# Altium schematic symbol library Connector.SchLib: 114 symbols
Pins are listed as number, name and electrical type; pins without a type are passive.

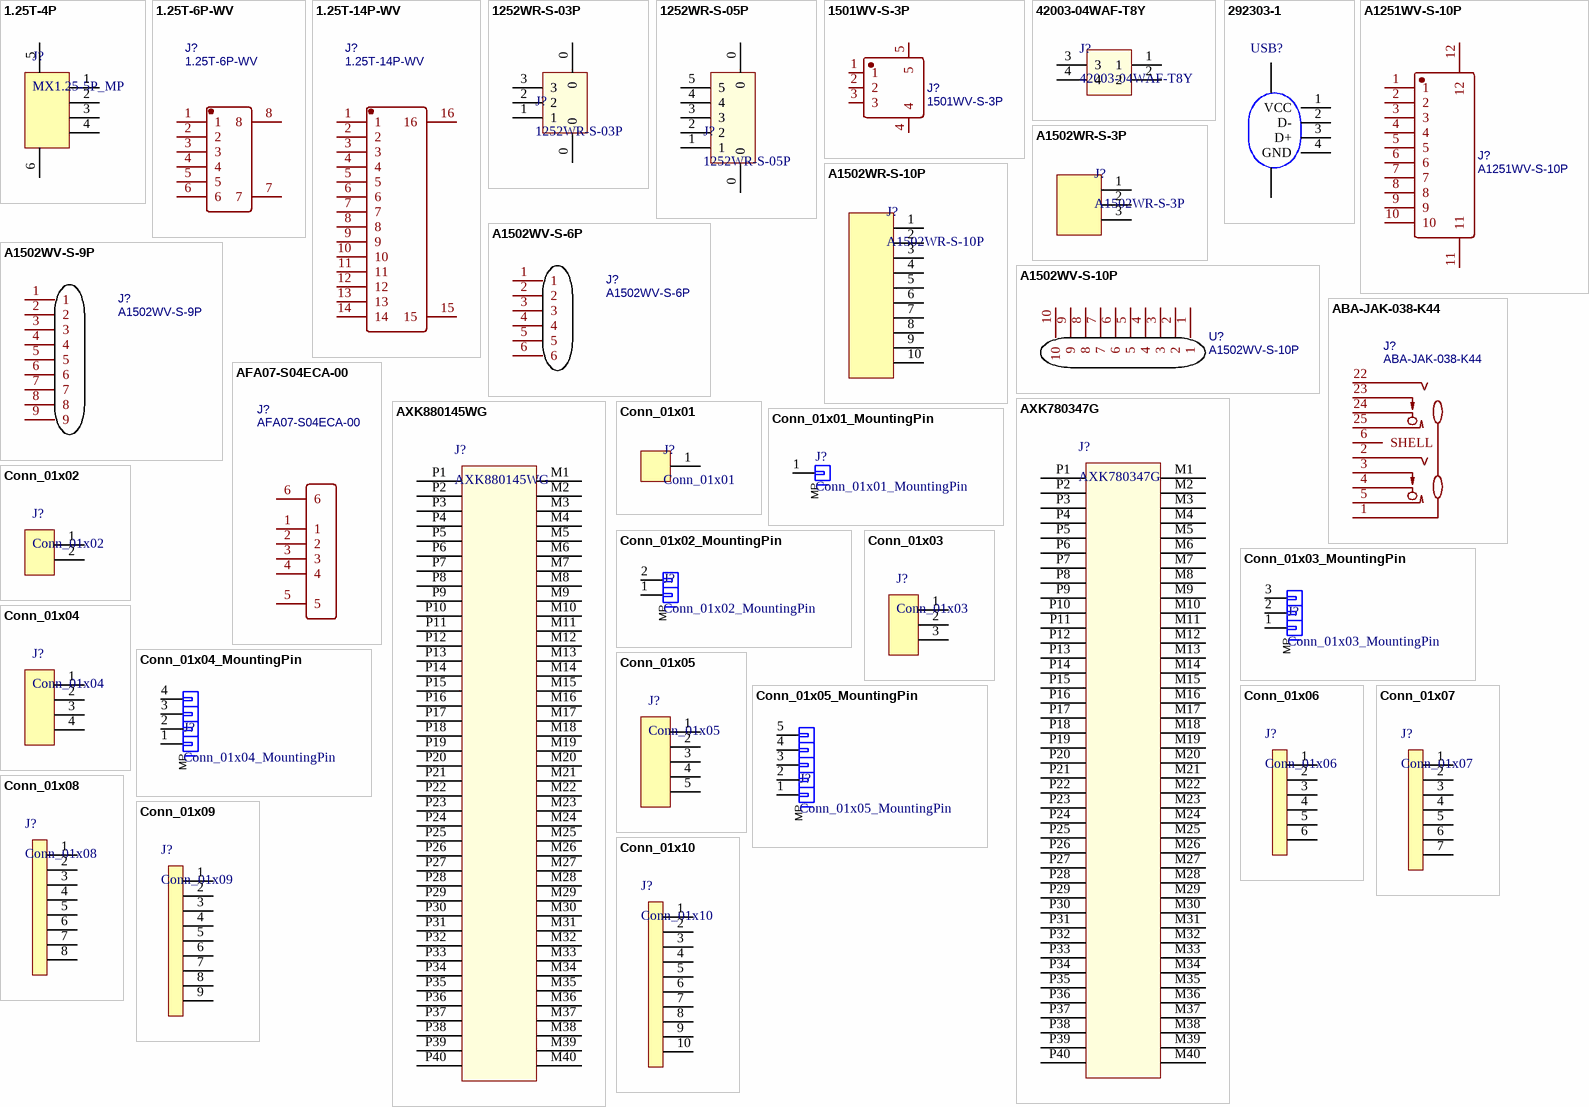
[diagram p0: symbols 1.25T-4P to Conn_01x10]

## 1.25T-4P
designator J?, comment MX1.25-5P_MP
1.25mm间距，立式表贴线对板接插件
footprint CONN-SMD_4P-P1.25_1.25T-4P
pins: 1, 2, 3, 4, 5, 6

## 1.25T-6P-WV
designator J?
1.25mm间距，立式表贴线对板接插件; BOM_Manufacturer: HRO; Contributor: LCSC; BOM_Supplier: LCSC; BOM_Manufacturer Part: 1.25T-6P-WV; BOM_Supplier Part: C145932; BOM_JLCPCB Part Class: Extended Part; spicePre: C; spiceSymbolName: 1.25T-6P-WV
footprint 1.25T-6P-WV
pins: 1, 2, 3, 4, 5, 6, 7, 8

## 1.25T-14P-WV
designator J?
1.25mm间距，14P，立式表贴线对板接插件; BOM_Manufacturer: HRO; BOM_Manufacturer Part: 1.25T-6P-WV; Contributor: LCSC; BOM_Supplier: LCSC; BOM_Supplier Part: C145932; BOM_JLCPCB Part Class: Extended Part; spicePre: C; spiceSymbolName: 1.25T-6P-WV
footprint 1.25T-14P-WV
pins: 1, 2, 3, 4, 5, 6, 7, 8, 9, 10, 11, 12, 13, 14, 15, 16

## 1252WR-S-03P
designator J?
1.25mm W2B 3P
footprint 1252WR-S-03P
pins: 0, 0, 1, 2, 3

## 1252WR-S-05P
designator J?
1.25mm W2B 5P
footprint 1252WR-S-05P
pins: 0, 0, 1, 2, 3, 4, 5

## 1501WV-S-3P
designator J?
立贴1.5mm带固定-3P; BOM_Manufacturer: Changjiang Connectors; BOM_Manufacturer Part: A1501WV-S-3P; Contributor: LCSC; BOM_Supplier: LCSC; BOM_Supplier Part: C225161; BOM_JLCPCB Part Class: Extended Part; spicePre: C; spiceSymbolName: A1501WV-S-3P
footprint CONN-SMD_A1501WV-S-3P
pins: 1, 2, 3, 4, 5

## 42003-04WAF-T8Y
designator J?
footprint CONN-TH_4P-P4.20-S5.50_L12.8-W9.6
pins: 1, 2, 3, 4

## 292303-1
designator USB?  (value not drawn)
Manufacturer: TE Connectivity(美国泰科); Add into BOM: yes; Connector Type: Type-A; Gender: 母座; Number of Contacts: 4; Number of Ports: 1; Symbol: 292303-1; Device: 292303-1; LCSC Part Name: Type-A 母座; Supplier Part: C86461; Manufacturer Part: 292303-1; Supplier Footprint: 插件; JLCPCB Part Class: Extended Part; Datasheet: https://atta.szlcsc.com/upload/public/pdf/source/20171106/C86461_15099694096011094005.pdf; Supplier: LCSC; Convert to PCB: yes; Standard: USB 2.0
footprint USB-A-TH_USB-302-T
3D model USB-A-TH_USB-A-F-90
pins: 1 VCC, 2 D-, 3 D+, 4 GND, 5, 6

## A1251WV-S-10P
designator J?
立贴1.25mm 10P; BOM_Manufacturer: Changjiang Connectors; Contributor: LCSC; BOM_Supplier: LCSC; BOM_Supplier Part: C273002; BOM_Manufacturer Part: A1251WV-S-10P; BOM_JLCPCB Part Class: Extended Part; spicePre: U; spiceSymbolName: A1251WV-S-10P
footprint CONN-SMD_10P-P1.25_A1251WV-S-10P
pins: 1, 2, 3, 4, 5, 6, 7, 8, 9, 10, 11, 12

## A1502WR-S-3P
designator J?
侧插MX1.5mm 3p
footprint A1502WR-S-3P
pins: 1, 2, 3

## A1502WR-S-10P
designator J?
侧插MX1.5mm 10p
footprint A1502WR-S-10P
pins: 1, 2, 3, 4, 5, 6, 7, 8, 9, 10

## A1502WV-S-6P
designator J?
1.5mm 6P 立贴; BOM_Manufacturer: Changjiang Connectors; BOM_Manufacturer Part: A1502WV-S-10P; Contributor: LCSC; BOM_Supplier: LCSC; BOM_Supplier Part: C273031; BOM_JLCPCB Part Class: Extended Part; spicePre: U; spiceSymbolName: A1502WV-S-10P
footprint A1502WV-S-6P
pins: 1, 2, 3, 4, 5, 6

## A1502WV-S-9P
designator J?
1.5mm 9P 立贴; BOM_Manufacturer: Changjiang Connectors; BOM_Manufacturer Part: A1502WV-S-10P; Contributor: LCSC; BOM_Supplier: LCSC; BOM_Supplier Part: C273031; BOM_JLCPCB Part Class: Extended Part; spicePre: U; spiceSymbolName: A1502WV-S-10P
footprint A1502WV-S-9P (Footprint not found)
pins: 1, 2, 3, 4, 5, 6, 7, 8, 9

## A1502WV-S-10P
designator U?
1.5mm 10P 立贴; BOM_Manufacturer: Changjiang Connectors; Contributor: LCSC; BOM_Supplier: LCSC; BOM_Supplier Part: C273031; BOM_Manufacturer Part: A1502WV-S-10P; BOM_JLCPCB Part Class: Extended Part; spicePre: U; spiceSymbolName: A1502WV-S-10P
footprint A1502WV-S-10P
pins: 1, 2, 3, 4, 5, 6, 7, 8, 9, 10

## ABA-JAK-038-K44
designator J?
3.5mm 音频插座; BOM_Manufacturer: LOTES; Contributor: LCSC; BOM_Supplier: LCSC; BOM_Supplier Part: C962119; BOM_Manufacturer Part: ABA-JAK-038-K44; BOM_JLCPCB Part Class: Extended Part; spicePre: B; spiceSymbolName: ABA-JAK-038-K44
footprint AUDIO-TH_ABA-JAK-038-K44
pins: 1, 2, 3, 4, 5, 6 SHELL, 22, 23, 24, 25

## AFA07-S04ECA-00
designator J?
BOM_Manufacturer: JUSHUO; Contributor: LCSC; BOM_Supplier: LCSC; BOM_Supplier Part: C262731; BOM_Manufacturer Part: AFA07-S04ECA-00; BOM_JLCPCB Part Class: Extended Part; spicePre: F; spiceSymbolName: AFA07-S04ECA-00
footprint FPC-SMD_4P-P1.00_AFA07-S04ECA-00
pins: 1, 2, 3, 4, 5, 6

## AXK780347G
designator J?
Panasonic 0.4mm pitch b2b connector, socket without soldering terminal
footprint AXK780347G
pins: M1, M2, M3, M4, M5, M6, M7, M8, M9, M10, M11, M12, M13, M14, M15, M16, M17, M18, M19, M20, M21, M22, M23, M24, M25, M26, M27, M28, M29, M30, M31, M32, M33, M34, M35, M36, M37, M38, M39, M40, P1, P2, P3, P4, P5, P6, P7, P8, P9, P10, P11, P12, P13, P14, P15, P16, P17, P18, P19, P20, P21, P22, P23, P24, P25, P26, P27, P28, P29, P30, P31, P32, P33, P34, P35, P36, P37, P38, P39, P40

## AXK880145WG
designator J?
Panasonic 0.4mm pitch b2b connector, header without soldering terminal
footprint AXK880145WG
pins: M1, M2, M3, M4, M5, M6, M7, M8, M9, M10, M11, M12, M13, M14, M15, M16, M17, M18, M19, M20, M21, M22, M23, M24, M25, M26, M27, M28, M29, M30, M31, M32, M33, M34, M35, M36, M37, M38, M39, M40, P1, P2, P3, P4, P5, P6, P7, P8, P9, P10, P11, P12, P13, P14, P15, P16, P17, P18, P19, P20, P21, P22, P23, P24, P25, P26, P27, P28, P29, P30, P31, P32, P33, P34, P35, P36, P37, P38, P39, P40

## Conn_01x01
designator J?
footprint PinHeader_1x01_P2.54mm_Vertical
footprint PinStampDual_1x01_P1.27mm
footprint PinStamp_1x01_P1.27mm
pins: 1

## Conn_01x01_MountingPin
designator J?
pins: 1
text: MP

## Conn_01x02
designator J?
footprint PinHeader_1x02_P2.54mm_Vertical
pins: 1, 2

## Conn_01x02_MountingPin
designator J?
pins: 1, 2
text: MP

## Conn_01x03
designator J?
footprint PinHeader_1x03_P2.54mm_Vertical
pins: 1, 2, 3

## Conn_01x03_MountingPin
designator J?
pins: 1, 2, 3
text: MP

## Conn_01x04
designator J?
footprint PinHeader_1x04_P2.54mm_Vertical
pins: 1, 2, 3, 4

## Conn_01x04_MountingPin
designator J?
pins: 1, 2, 3, 4
text: MP

## Conn_01x05
designator J?
footprint PinHeader_1x05_P2.54mm_Vertical
footprint PinSocket_1x05_P2.54mm_Vertical
pins: 1, 2, 3, 4, 5

## Conn_01x05_MountingPin
designator J?
pins: 1, 2, 3, 4, 5
text: MP

## Conn_01x06
designator J?
footprint PinHeader_1x06_P2.54mm_Vertical
pins: 1, 2, 3, 4, 5, 6

## Conn_01x07
designator J?
footprint PinHeader_1x07_P2.54mm_Vertical
footprint PinSocket_1x07_P2.54mm_Vertical
pins: 1, 2, 3, 4, 5, 6, 7

## Conn_01x08
designator J?
footprint PinHeader_1x08_P2.54mm_Vertical
pins: 1, 2, 3, 4, 5, 6, 7, 8

## Conn_01x09
designator J?
footprint PinStamp_1x09_P1.27mm
footprint PinStampDual_1x09_P1.27mm
footprint PinHeader_1x09_P2.54mm_Vertical
pins: 1, 2, 3, 4, 5, 6, 7, 8, 9

## Conn_01x10
designator J?
footprint PinHeader_1x10_P2.54mm_Vertical
pins: 1, 2, 3, 4, 5, 6, 7, 8, 9, 10

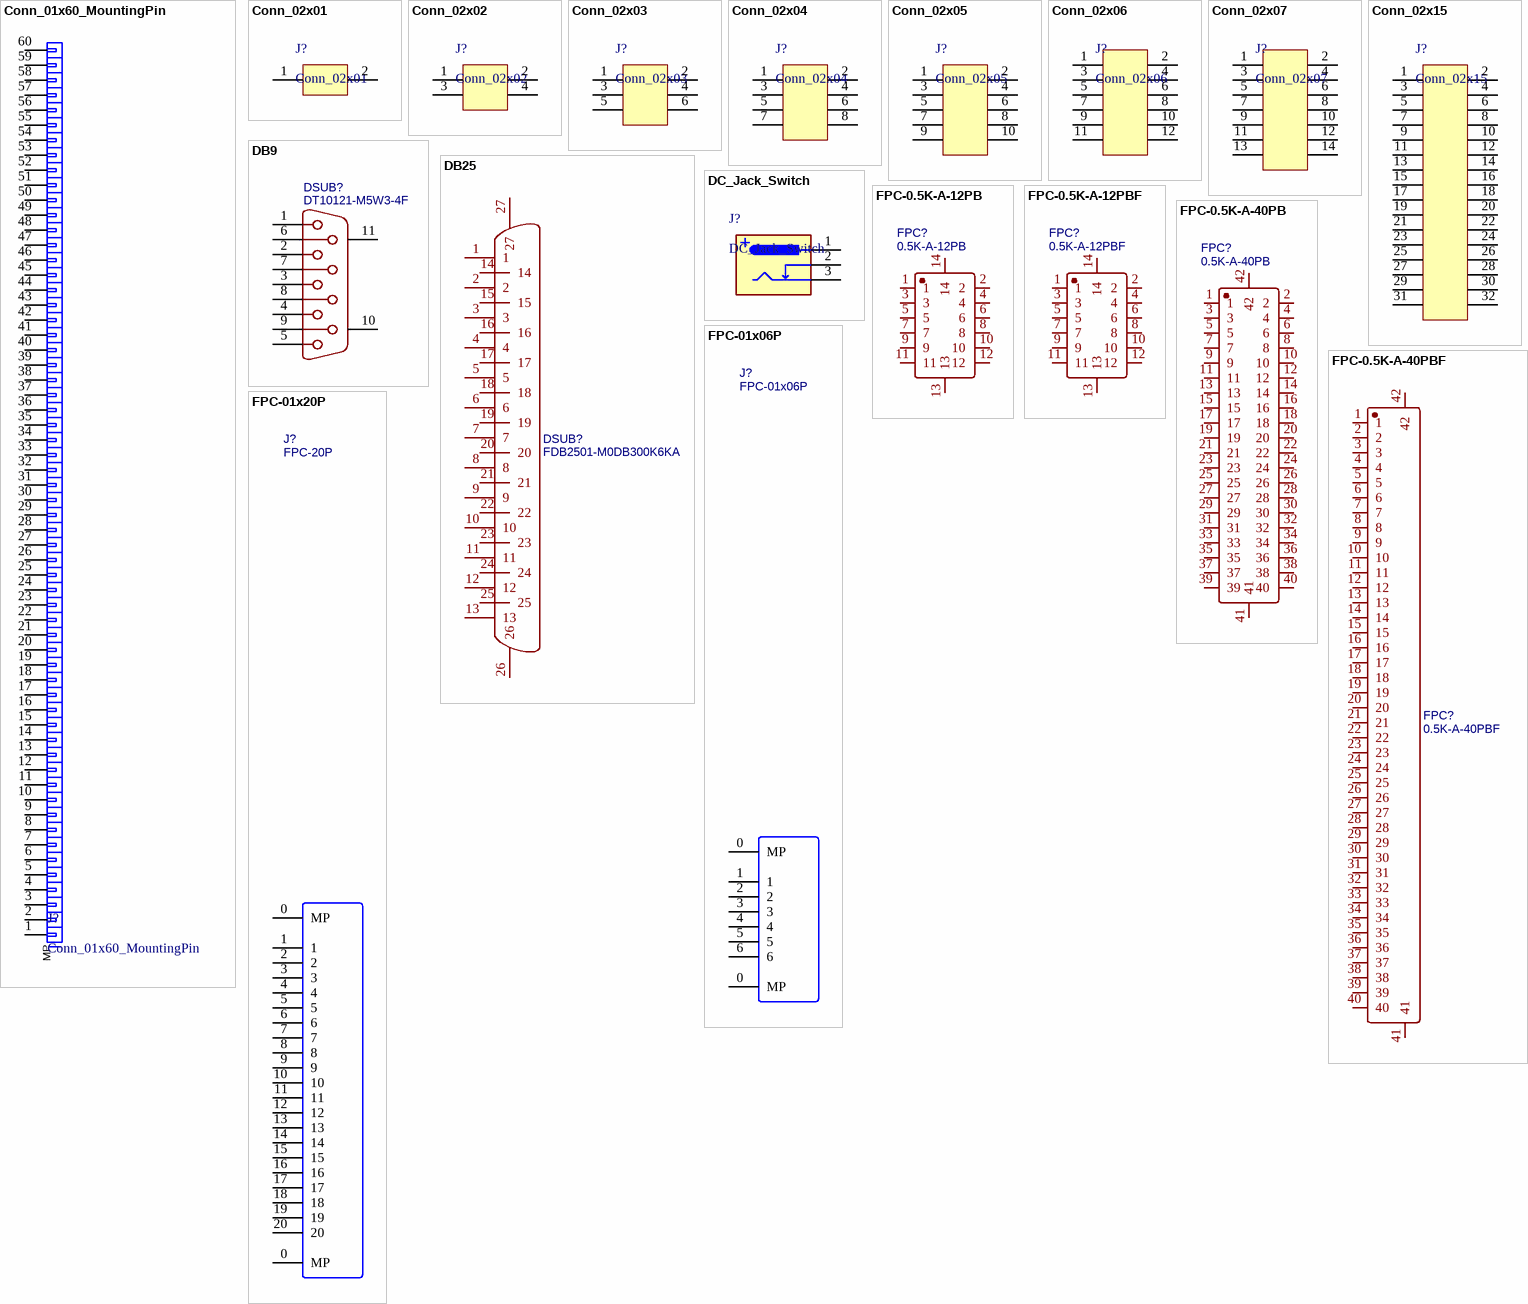
[diagram p1: symbols Conn_01x60_MountingPin to FPC-01x20P]

## Conn_01x60_MountingPin
designator J?
pins: 1, 2, 3, 4, 5, 6, 7, 8, 9, 10, 11, 12, 13, 14, 15, 16, 17, 18, 19, 20, 21, 22, 23, 24, 25, 26, 27, 28, 29, 30, 31, 32, 33, 34, 35, 36, 37, 38, 39, 40, 41, 42, 43, 44, 45, 46, 47, 48, 49, 50, 51, 52, 53, 54, 55, 56, 57, 58, 59, 60
text: MP

## Conn_02x01
designator J?
footprint PinHeader_2x01_P2.54mm_Vertical
pins: 1, 2

## Conn_02x02
designator J?
footprint PinHeader_2x02_P2.54mm_Vertical
pins: 1, 2, 3, 4

## Conn_02x03
designator J?
footprint PinHeader_2x03_P2.54mm_Vertical
pins: 1, 2, 3, 4, 5, 6

## Conn_02x04
designator J?
footprint PinHeader_2x04_P2.54mm_Vertical
pins: 1, 2, 3, 4, 5, 6, 7, 8

## Conn_02x05
designator J?
footprint PinHeader_2x05_P2.54mm_Vertical
pins: 1, 2, 3, 4, 5, 6, 7, 8, 9, 10

## Conn_02x06
designator J?
footprint PinHeader_2x06_P2.54mm_Vertical
pins: 1, 2, 3, 4, 5, 6, 7, 8, 9, 10, 11, 12

## Conn_02x07
designator J?
footprint PinHeader_2x07_P2.54mm_Vertical
pins: 1, 2, 3, 4, 5, 6, 7, 8, 9, 10, 11, 12, 13, 14

## Conn_02x15
designator J?
pins: 1, 2, 3, 4, 5, 6, 7, 8, 9, 10, 11, 12, 13, 14, 15, 16, 17, 18, 19, 20, 21, 22, 23, 24, 25, 26, 27, 28, 29, 30, 31, 32

## DB9
designator DSUB?, comment DT10121-M5W3-4F
BOM_Manufacturer: FOXCONN(富士康); Contributor: LCSC; BOM_Supplier: LCSC; BOM_Supplier Part: C2760978; BOM_Manufacturer Part: DT10121-M5W3-4F; spicePre: D; spiceSymbolName: DT10121-M5W3-4F
footprint DSUB-TH_DT10121-M5W3-4F
pins: 1, 2, 3, 4, 5, 6, 7, 8, 9, 10 MH1, 11 MH2

## DB25
designator DSUB?, comment FDB2501-M0DB300K6KA
BOM_Manufacturer: TXGA(特思嘉); Contributor: LCSC; BOM_Supplier: LCSC; BOM_Supplier Part: C2834344; BOM_Manufacturer Part: FDB2501-M0DB300K6KA; spicePre: D; spiceSymbolName: FDB2501-M0DB300K6KA
footprint DB25-TH_FDB2501-M0DB300K6KA
pins: 1, 2, 3, 4, 5, 6, 7, 8, 9, 10, 11, 12, 13, 14, 15, 16, 17, 18, 19, 20, 21, 22, 23, 24, 25, 26, 27

## DC_Jack_Switch
designator J?
DC Barrel Jack with an internal switch
footprint DC-005-2.1mm
pins: 1, 2, 3

## FPC-0.5K-A-12PB
designator FPC?, comment 0.5K-A-12PB
0.5间距立式SMT抽拉 H=4.5 12P; BOM_Manufacturer: HDGC(华德共创); Contributor: LCSC; BOM_Supplier: LCSC; BOM_Supplier Part: C2914138; BOM_Manufacturer Part: 0.5K-A-12PB; BOM_JLCPCB Part Class: Extended Part; spicePre: F; spiceSymbolName: 0.5K-A-12PB
footprint FPC-SMD_12P-P0.50_HDGC_0.5K-A-12PB
pins: 1, 2, 3, 4, 5, 6, 7, 8, 9, 10, 11, 12, 13, 14

## FPC-0.5K-A-12PBF
designator FPC?, comment 0.5K-A-12PBF
0.5间距立式贴片反脚H=4.5 12P; BOM_Manufacturer: HDGC(华德共创); Contributor: LCSC; BOM_Supplier: LCSC; BOM_Supplier Part: C2914207; BOM_Manufacturer Part: 0.5K-A-12PBF; spicePre: F; spiceSymbolName: 0.5K-A-12PBF
footprint FPC-SMD_12P-P0.50_HDGC_0.5K-A-12PBF
pins: 1, 2, 3, 4, 5, 6, 7, 8, 9, 10, 11, 12, 13, 14

## FPC-0.5K-A-40PB
designator FPC?, comment 0.5K-A-40PB
0.5mm FPC 40P 立贴 0.5K-A-40PB; BOM_Manufacturer: HDGC(华德共创); Contributor: LCSC; BOM_Supplier: LCSC; BOM_Supplier Part: C2914160; BOM_Manufacturer Part: 0.5K-A-40PB; BOM_JLCPCB Part Class: Extended Part; spicePre: F; spiceSymbolName: 0.5K-A-40PB
footprint FPC-SMD_40P-P0.50_HDGC_0.5K-A-40PB
pins: 1, 2, 3, 4, 5, 6, 7, 8, 9, 10, 11, 12, 13, 14, 15, 16, 17, 18, 19, 20, 21, 22, 23, 24, 25, 26, 27, 28, 29, 30, 31, 32, 33, 34, 35, 36, 37, 38, 39, 40, 41, 42

## FPC-0.5K-A-40PBF
designator FPC?, comment 0.5K-A-40PBF
0.5mm FPC 40P 立贴反脚 0.5K-A-40PB; BOM_Manufacturer: HDGC(华德共创); Contributor: LCSC; BOM_Supplier: LCSC; BOM_Supplier Part: C2914225; BOM_Manufacturer Part: 0.5K-A-40PBF; spicePre: F; spiceSymbolName: 0.5K-A-40PBF
footprint FPC-SMD_40P-P0.50_HDGC_0.5K-A-40PBF
pins: 1, 2, 3, 4, 5, 6, 7, 8, 9, 10, 11, 12, 13, 14, 15, 16, 17, 18, 19, 20, 21, 22, 23, 24, 25, 26, 27, 28, 29, 30, 31, 32, 33, 34, 35, 36, 37, 38, 39, 40, 41, 42

## FPC-01x06P
designator J?
BOM_Manufacturer: JUSHUO; BOM_Manufacturer Part: AFC07-S60ECC-00; Contributor: LCSC; BOM_Supplier: LCSC; BOM_Supplier Part: C262259; spicePre: F; spiceSymbolName: AFC07-S60ECC-00
footprint FPC-SMD_P06_0.5MM
pins: 0 MP, 0 MP, 1, 2, 3, 4, 5, 6

## FPC-01x20P
designator J?, comment FPC-20P
BOM_Manufacturer: JUSHUO; BOM_Manufacturer Part: AFC07-S60ECC-00; Contributor: LCSC; BOM_Supplier: LCSC; BOM_Supplier Part: C262259; spicePre: F; spiceSymbolName: AFC07-S60ECC-00
footprint FPC-SMD_P20_0.5MM
pins: 0 MP, 0 MP, 1, 2, 3, 4, 5, 6, 7, 8, 9, 10, 11, 12, 13, 14, 15, 16, 17, 18, 19, 20

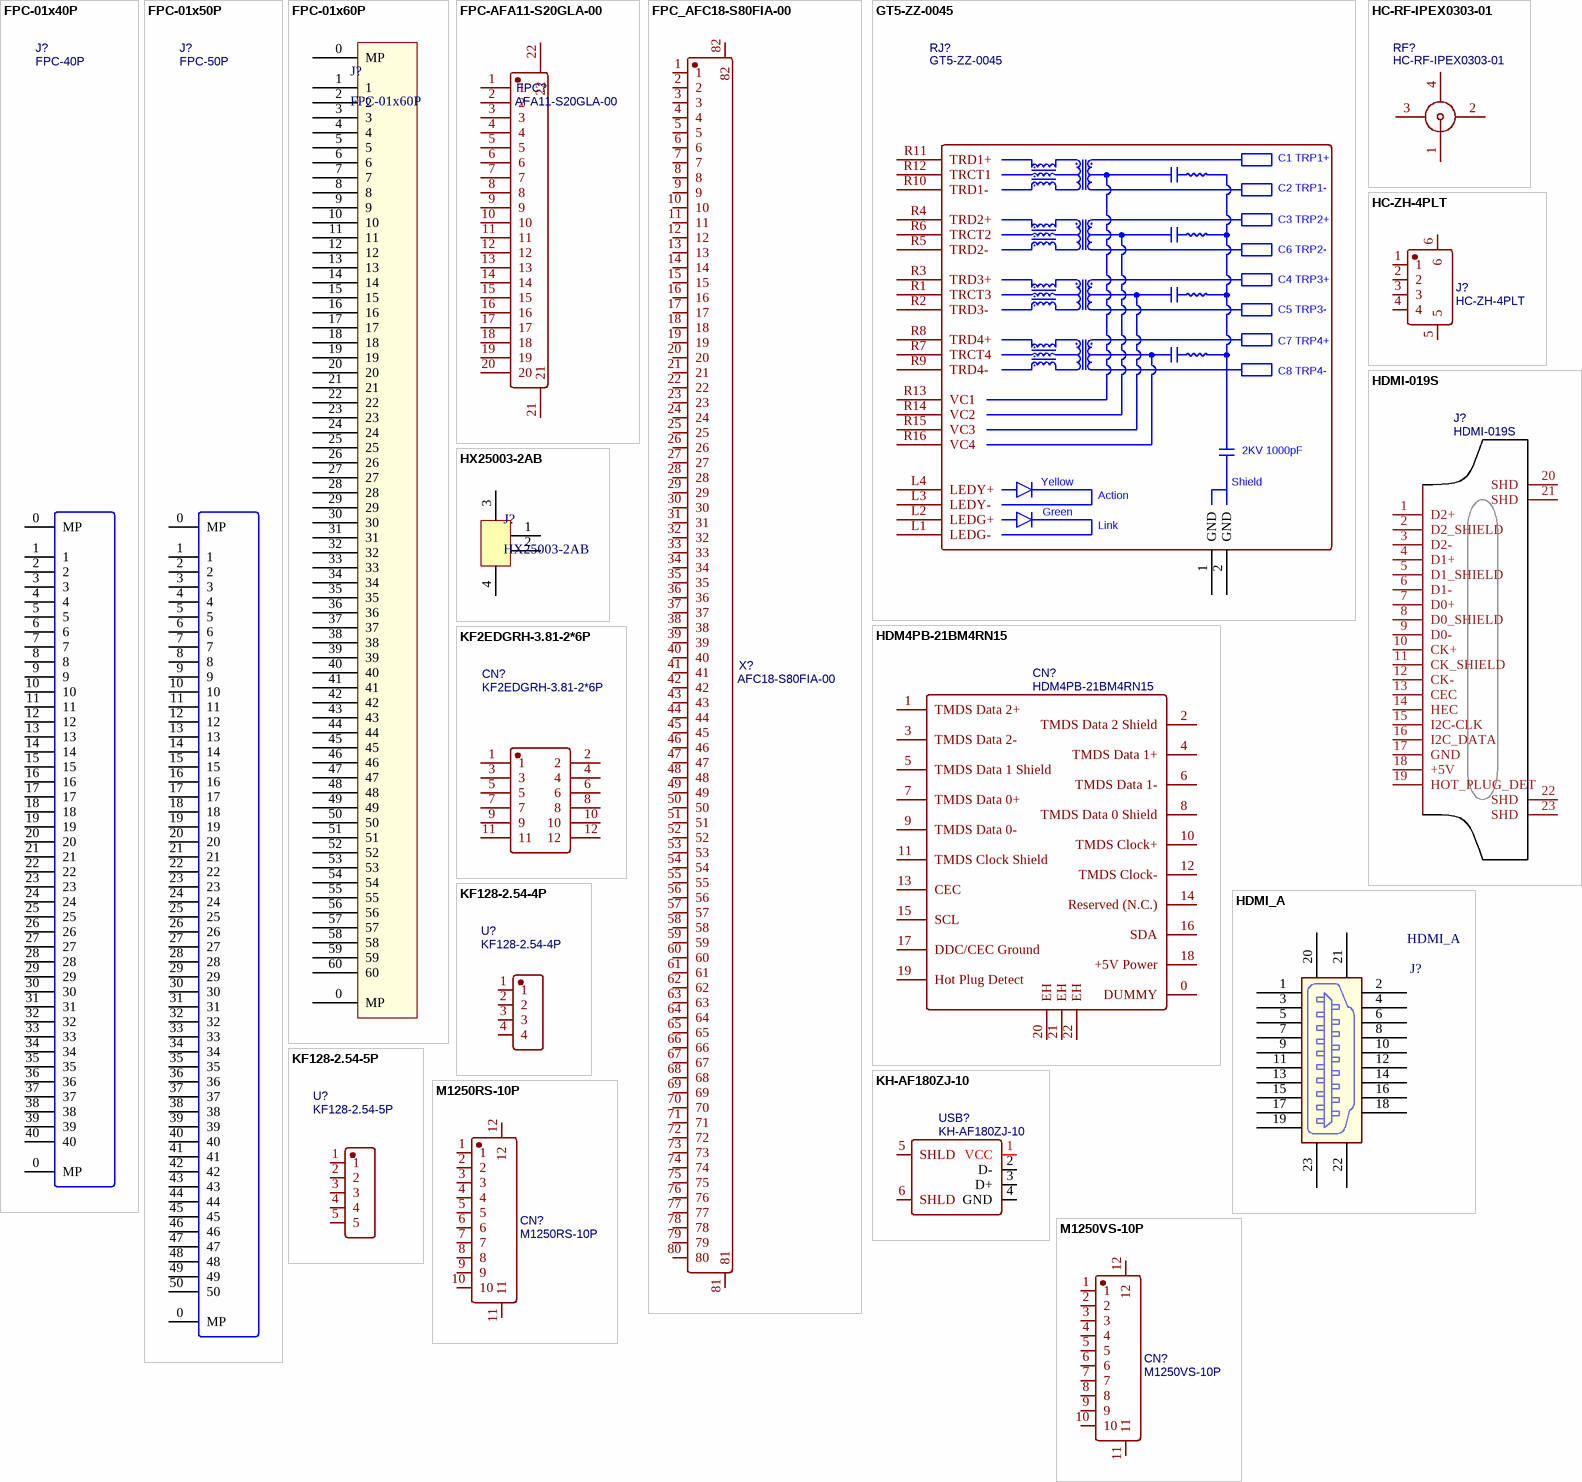
[diagram p2: symbols FPC-01x40P to M1250VS-10P]

## FPC-01x40P
designator J?, comment FPC-40P
BOM_Manufacturer: JUSHUO; BOM_Manufacturer Part: AFC07-S60ECC-00; Contributor: LCSC; BOM_Supplier: LCSC; BOM_Supplier Part: C262259; spicePre: F; spiceSymbolName: AFC07-S60ECC-00
footprint FPC-0.5-40P
pins: 0 MP, 0 MP, 1, 2, 3, 4, 5, 6, 7, 8, 9, 10, 11, 12, 13, 14, 15, 16, 17, 18, 19, 20, 21, 22, 23, 24, 25, 26, 27, 28, 29, 30, 31, 32, 33, 34, 35, 36, 37, 38, 39, 40

## FPC-01x50P
designator J?, comment FPC-50P
BOM_Manufacturer: JUSHUO; BOM_Manufacturer Part: AFC07-S60ECC-00; Contributor: LCSC; BOM_Supplier: LCSC; BOM_Supplier Part: C262259; spicePre: F; spiceSymbolName: AFC07-S60ECC-00
footprint FPC-SMD_P50_0.5MM
pins: 0 MP, 0 MP, 1, 2, 3, 4, 5, 6, 7, 8, 9, 10, 11, 12, 13, 14, 15, 16, 17, 18, 19, 20, 21, 22, 23, 24, 25, 26, 27, 28, 29, 30, 31, 32, 33, 34, 35, 36, 37, 38, 39, 40, 41, 42, 43, 44, 45, 46, 47, 48, 49, 50

## FPC-01x60P
designator J?
footprint FPC-SMD_P60_0.5MM
pins: 0 MP, 0 MP, 1, 2, 3, 4, 5, 6, 7, 8, 9, 10, 11, 12, 13, 14, 15, 16, 17, 18, 19, 20, 21, 22, 23, 24, 25, 26, 27, 28, 29, 30, 31, 32, 33, 34, 35, 36, 37, 38, 39, 40, 41, 42, 43, 44, 45, 46, 47, 48, 49, 50, 51, 52, 53, 54, 55, 56, 57, 58, 59, 60

## FPC-AFA11-S20GLA-00
designator FPC?, comment AFA11-S20GLA-00
1mm间距立式SMT抽拉 20 P; BOM_Manufacturer: JS(钜硕电子); Contributor: LCSC; BOM_Supplier: LCSC; BOM_Supplier Part: C2912860; BOM_Manufacturer Part: AFA11-S20GLA-00; spicePre: X; spiceSymbolName: AFA11-S20GLA-00
footprint FPC-SMD_20P-P1.00_JUSHUO_AFA11-S20GLA-00
pins: 1, 2, 3, 4, 5, 6, 7, 8, 9, 10, 11, 12, 13, 14, 15, 16, 17, 18, 19, 20, 21, 22

## FPC_AFC18-S80FIA-00
designator X?, comment AFC18-S80FIA-00
FPC 0.5mm 80P 翻盖下接; BOM_Manufacturer: JS(钜硕电子); Contributor: LCSC; BOM_Supplier: LCSC; BOM_Supplier Part: C2842534; BOM_Manufacturer Part: AFC18-S80FIA-00; BOM_JLCPCB Part Class: Extended Part; spicePre: X; spiceSymbolName: AFC18-S80FIA-00
footprint FPC-SMD_AFC18-S80FIA-00
pins: 1, 2, 3, 4, 5, 6, 7, 8, 9, 10, 11, 12, 13, 14, 15, 16, 17, 18, 19, 20, 21, 22, 23, 24, 25, 26, 27, 28, 29, 30, 31, 32, 33, 34, 35, 36, 37, 38, 39, 40, 41, 42, 43, 44, 45, 46, 47, 48, 49, 50, 51, 52, 53, 54, 55, 56, 57, 58, 59, 60, 61, 62, 63, 64, 65, 66, 67, 68, 69, 70, 71, 72, 73, 74, 75, 76, 77, 78, 79, 80, 81, 82

## GT5-ZZ-0045
designator RJ?
10G 加POE60W 左黄右绿 开口向上; BOM_Manufacturer: UDE Corp; Contributor: LCSC; BOM_Supplier: LCSC; BOM_Supplier Part: C711509; BOM_Manufacturer Part: GT5-ZZ-0045; BOM_JLCPCB Part Class: Extended Part; spicePre: R; spiceSymbolName: GT5-ZZ-0045
footprint RJ45-TH_GT5-ZZ-0045
pins: 1 GND, 2 GND, L1 LEDG-, L2 LEDG+, L3 LEDY-, L4 LEDY+, R1 TRCT3, R2 TRD3-, R3 TRD3+, R4 TRD2+, R5 TRD2-, R6 TRCT2, R7 TRCT4, R8 TRD4+, R9 TRD4-, R10 TRD1-, R11 TRD1+, R12 TRCT1, R13 VC1, R14 VC2, R15 VC3, R16 VC4
text: C1 TRP1+; C2 TRP1-; C3 TRP2+; C6 TRP2-; C4 TRP3+; C5 TRP3-; C7 TRP4+; C8 TRP4-; 2KV 1000pF; Yellow; Shield; Action; Green; Link

## HC-RF-IPEX0303-01
designator RF?
板端 内针 直径2mm 高度1.25mm; BOM_Manufacturer: HCTL(华灿天禄); Contributor: LCSC; BOM_Supplier: LCSC; BOM_Supplier Part: C2894919; BOM_Manufacturer Part: HC-RF-IPEX0303-01; BOM_JLCPCB Part Class: Extended Part; spicePre: R; spiceSymbolName: HC-RF-IPEX0303-01
footprint IPEX-SMD_HC-RF-IPEX0303-01
pins: 1, 2, 3, 4

## HC-ZH-4PLT
designator J?
4P 立贴 间距P=1.5mm; BOM_Manufacturer: HCTL(华灿天禄); Contributor: LCSC; BOM_Supplier: LCSC; BOM_Supplier Part: C2845435; BOM_Manufacturer Part: HC-ZH-4PLT; BOM_JLCPCB Part Class: Extended Part; spicePre: C; spiceSymbolName: HC-ZH-4PLT
footprint CONN-SMD_4P-P1.5_HCTL_HC-ZH-4PLT
pins: 1, 2, 3, 4, 5, 6

## HDM4PB-21BM4RN15
designator CN?
HDMI 立贴; BOM_Manufacturer: DLK; Contributor: LCSC; BOM_Supplier: LCSC; BOM_Supplier Part: C668132; BOM_Manufacturer Part: HDM4PB-21BM4RN15; BOM_JLCPCB Part Class: Extended Part; spicePre: C; spiceSymbolName: HDM4PB-21BM4RN15
footprint HDMI-SMD_HDM4PB-21BM4RN15
pins: 0 DUMMY, 1 TMDS Data 2+, 2 TMDS Data 2 Shield, 3 TMDS Data 2-, 4 TMDS Data 1+, 5 TMDS Data 1 Shield, 6 TMDS Data 1-, 7 TMDS Data 0+, 8 TMDS Data 0 Shield, 9 TMDS Data 0-, 10 TMDS Clock+, 11 TMDS Clock Shield, 12 TMDS Clock-, 13 CEC, 14 Reserved (N.C.), 15 SCL, 16 SDA, 17 DDC/CEC Ground, 18 +5V Power, 19 Hot Plug Detect, 20 EH, 21 EH, 22 EH

## HDMI-019S
designator J?
BOM_Manufacturer: SOFNG; BOM_Supplier: LCSC; BOM_Manufacturer Part: HDMI-019S; BOM_Supplier Part: C111617; spicePre: H; spiceSymbolName: HDMI-019S
footprint HDMI-SMD_HDMI-019S
pins: 1 D2+, 2 D2_SHIELD, 3 D2-, 4 D1+, 5 D1_SHIELD, 6 D1-, 7 D0+, 8 D0_SHIELD, 9 D0-, 10 CK+, 11 CK_SHIELD, 12 CK-, 13 CEC, 14 HEC, 15 I2C-CLK, 16 I2C_DATA, 17 GND, 18 +5V, 19 HOT_PLUG_DET, 20 SHD, 21 SHD, 22 SHD, 23 SHD

## HDMI_A
designator J?
footprint HDMI-A-19P
pins: 1 $PIN0, 2, 3, 4, 5, 6, 7, 8, 9, 10, 11, 12, 13, 14, 15, 16, 17, 18, 19, 20, 21, 22, 23

## HX25003-2AB
designator J?
母座 立贴 2.5mm 2Pin位
footprint CONN-SMD_P2.50_HX25003-2AB
pins: 1, 2, 3, 4

## KF2EDGRH-3.81-2*6P
designator CN?
BOM_Manufacturer: Cixi Kefa Elec; Contributor: LCSC; BOM_Supplier: LCSC; BOM_Supplier Part: C577688; BOM_Manufacturer Part: KF2EDGRH-3.81-2*6P; BOM_JLCPCB Part Class: Extended Part; spicePre: C; spiceSymbolName: KF2EDGRH-3.81-2*6P
footprint CONN-TH_KF2EDGRH-3.81-2-6P
pins: 1, 2, 3, 4, 5, 6, 7, 8, 9, 10, 11, 12

## KF128-2.54-4P
designator U?
BOM_Manufacturer: Cixi Kefa Elec; Contributor: LCSC; BOM_Supplier: LCSC; BOM_Supplier Part: C474922; BOM_Manufacturer Part: KF128-2.54-4P; BOM_JLCPCB Part Class: Extended Part; spicePre: U; spiceSymbolName: KF128-2.54-4P
footprint CONN-TH_4P-P2.54_KF128-2.54-4P
pins: 1, 2, 3, 4

## KF128-2.54-5P
designator U?
BOM_Manufacturer: Cixi Kefa Elec; Contributor: LCSC; BOM_Supplier: LCSC; BOM_Supplier Part: C474923; BOM_Manufacturer Part: KF128-2.54-5P; BOM_JLCPCB Part Class: Extended Part; spicePre: U; spiceSymbolName: KF128-2.54-5P
footprint CONN-TH_5P-P2.54_KF128-2.54-5P
pins: 1, 2, 3, 4, 5

## KH-AF180ZJ-10
designator USB?
BOM_Manufacturer: kinghelm(金航标); Contributor: LCSC; BOM_Supplier: LCSC; BOM_Supplier Part: C2833339; BOM_Manufacturer Part: KH-AF180ZJ-10; BOM_JLCPCB Part Class: Extended Part; spicePre: U; spiceSymbolName: KH-AF180ZJ-10
footprint USB-A-TH_KH-AF180ZJ-10
pins: 1 VCC, 2 D-, 3 D+, 4 GND, 5 SHLD, 6 SHLD

## M1250RS-10P
designator CN?
BOM_Manufacturer: XFCN(台湾兴飞); Contributor: LCSC; BOM_Supplier: LCSC; BOM_Supplier Part: C2935455; BOM_Manufacturer Part: M1250RS-10P; spicePre: C; spiceSymbolName: M1250RS-10P
footprint CONN-SMD_10P-P1.25_XFCN_M1250RS-10P
pins: 1, 2, 3, 4, 5, 6, 7, 8, 9, 10, 11, 12

## M1250VS-10P
designator CN?
BOM_Manufacturer: XFCN(台湾兴飞); BOM_Manufacturer Part: M1250RS-10P; Contributor: LCSC; BOM_Supplier: LCSC; BOM_Supplier Part: C2935455; spicePre: C; spiceSymbolName: M1250RS-10P
footprint CONN-SMD_10P-P1.25_XFCN_M1250VS-10P
pins: 1, 2, 3, 4, 5, 6, 7, 8, 9, 10, 11, 12

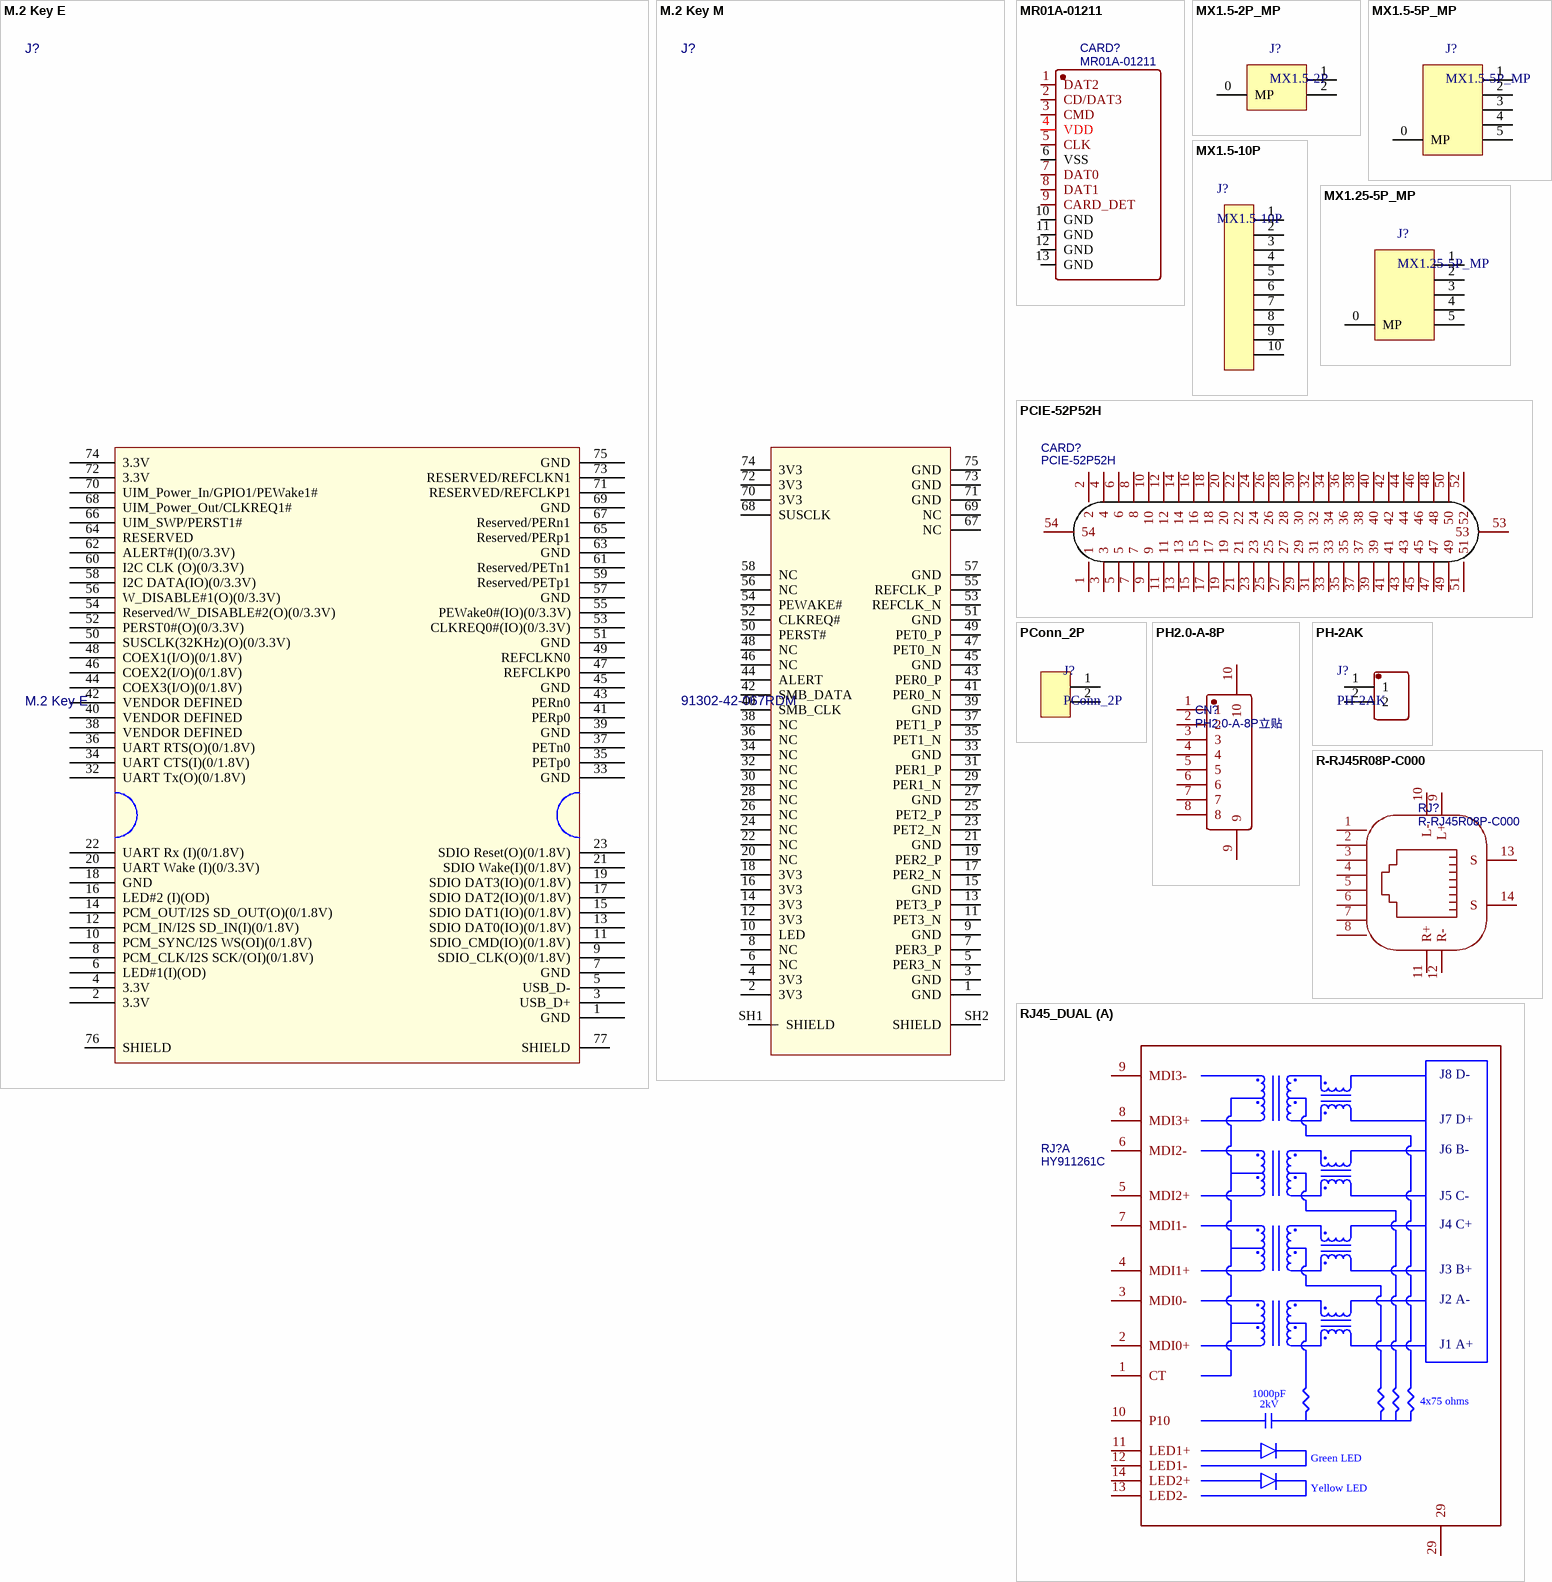
[diagram p3: symbols M.2 Key E to RJ45_DUAL]

## M.2 Key E
designator J?
footprint PCIE-SMD_KEY-E
pins: 1 GND, 2 3.3V, 3 USB_D+, 4 3.3V, 5 USB_D-, 6 LED#1(I)(OD), 7 GND, 8 PCM_CLK/I2S SCK/(OI)(0/1.8V), 9 SDIO_CLK(O)(0/1.8V), 10 PCM_SYNC/I2S WS(OI)(0/1.8V), 11 SDIO_CMD(IO)(0/1.8V), 12 PCM_IN/I2S SD_IN(I)(0/1.8V), 13 SDIO DAT0(IO)(0/1.8V), 14 PCM_OUT/I2S SD_OUT(O)(0/1.8V), 15 SDIO DAT1(IO)(0/1.8V), 16 LED#2 (I)(OD), 17 SDIO DAT2(IO)(0/1.8V), 18 GND, 19 SDIO DAT3(IO)(0/1.8V), 20 UART Wake (I)(0/3.3V), 21 SDIO Wake(I)(0/1.8V), 22 UART Rx (I)(0/1.8V), 23 SDIO Reset(O)(0/1.8V), 32 UART Tx(O)(0/1.8V), 33 GND, 34 UART CTS(I)(0/1.8V), 35 PETp0, 36 UART RTS(O)(0/1.8V), 37 PETn0, 38 VENDOR DEFINED, 39 GND, 40 VENDOR DEFINED, 41 PERp0, 42 VENDOR DEFINED, 43 PERn0, 44 COEX3(I/O)(0/1.8V), 45 GND, 46 COEX2(I/O)(0/1.8V), 47 REFCLKP0, 48 COEX1(I/O)(0/1.8V), 49 REFCLKN0, 50 SUSCLK(32KHz)(O)(0/3.3V), 51 GND, 52 PERST0#(O)(0/3.3V), 53 CLKREQ0#(IO)(0/3.3V), 54 Reserved/W_DISABLE#2(O)(0/3.3V), 55 PEWake0#(IO)(0/3.3V), 56 W_DISABLE#1(O)(0/3.3V), 57 GND, 58 I2C DATA(IO)(0/3.3V), 59 Reserved/PETp1, 60 I2C CLK (O)(0/3.3V), 61 Reserved/PETn1, 62 ALERT#(I)(0/3.3V), 63 GND, 64 RESERVED, 65 Reserved/PERp1, 66 UIM_SWP/PERST1#, 67 Reserved/PERn1, 68 UIM_Power_Out/CLKREQ1#, 69 GND, 70 UIM_Power_In/GPIO1/PEWake1#, 71 RESERVED/REFCLKP1, 72 3.3V, 73 RESERVED/REFCLKN1, 74 3.3V, 75 GND, 76 SHIELD, 77 SHIELD

## M.2 Key M
designator J?, comment 91302-42-067RDM
M.2 Key M
footprint MDT580M01001
footprint PCIE-SMD_KEY-M
pins: 1 GND, 2 3V3, 3 GND, 4 3V3, 5 PER3_N, 6 NC, 7 PER3_P, 8 NC, 9 GND, 10 LED, 11 PET3_N, 12 3V3, 13 PET3_P, 14 3V3, 15 GND, 16 3V3, 17 PER2_N, 18 3V3, 19 PER2_P, 20 NC, 21 GND, 22 NC, 23 PET2_N, 24 NC, 25 PET2_P, 26 NC, 27 GND, 28 NC, 29 PER1_N, 30 NC, 31 PER1_P, 32 NC, 33 GND, 34 NC, 35 PET1_N, 36 NC, 37 PET1_P, 38 NC, 39 GND, 40 SMB_CLK, 41 PER0_N, 42 SMB_DATA, 43 PER0_P, 44 ALERT, 45 GND, 46 NC, 47 PET0_N, 48 NC, 49 PET0_P, 50 PERST#, 51 GND, 52 CLKREQ#, 53 REFCLK_N, 54 PEWAKE#, 55 REFCLK_P, 56 NC, 57 GND, 58 NC, 67 NC, 68 SUSCLK, 69 NC, 70 3V3, 71 GND, 72 3V3, 73 GND, 74 3V3, 75 GND, SH1 SHIELD, SH2 SHIELD

## MR01A-01211
designator CARD?
自弹式 MicroSD卡(TF卡) 卡座; BOM_Manufacturer: ATOM(爱特姆); Contributor: LCSC; BOM_Supplier: LCSC; BOM_Supplier Part: C479742; BOM_Manufacturer Part: MR01A-01211; BOM_JLCPCB Part Class: Extended Part; spicePre: C; spiceSymbolName: MR01A-01211
footprint TF-SMD_MR01A-01211
pins: 1 DAT2, 2 CD/DAT3, 3 CMD, 4 VDD, 5 CLK, 6 VSS, 7 DAT0, 8 DAT1, 9 CARD_DET, 10 GND, 11 GND, 12 GND, 13 GND

## MX1.5-2P_MP
designator J?, comment MX1.5-2P
1.5mm间距，立式表贴线对板接插件
footprint MX1.5mm-2P-MT
pins: 0 MP, 1, 2

## MX1.5-5P_MP
designator J?
1.5mm间距，立式表贴线对板接插件
footprint MX1.5mm-5P-MT
pins: 0 MP, 1, 2, 3, 4, 5

## MX1.5-10P
designator J?
1.5mm间距，立式表贴线对板接插件
footprint Molex_W2B_10P_P1.5mm
pins: 1, 2, 3, 4, 5, 6, 7, 8, 9, 10

## MX1.25-5P_MP
designator J?
1.25mm间距，立式表贴线对板接插件
footprint M1250RS-05P
footprint M1250VS-05P
pins: 0 MP, 1, 2, 3, 4, 5

## PCIE-52P52H
designator CARD?
BOM_Manufacturer: XUNPU; Contributor: LCSC; BOM_Supplier: LCSC; BOM_Supplier Part: C266899; BOM_Manufacturer Part: PCIE-52P52H; BOM_JLCPCB Part Class: Extended Part; spicePre: C; spiceSymbolName: PCIE-52P52H
footprint CONN-SMD_PCIE-52P52H
pins: 1, 2, 3, 4, 5, 6, 7, 8, 9, 10, 11, 12, 13, 14, 15, 16, 17, 18, 19, 20, 21, 22, 23, 24, 25, 26, 27, 28, 29, 30, 31, 32, 33, 34, 35, 36, 37, 38, 39, 40, 41, 42, 43, 44, 45, 46, 47, 48, 49, 50, 51, 52, 53, 54

## PConn_2P
designator J?
footprint CONN-TH_2P_8mm_H
footprint CONN-TH_2P_5.08mm_H
pins: 1, 2

## PH2.0-A-8P
designator CN?, comment PH2.0-A-8P立贴
BOM_Manufacturer: BOOMELE(博穆精密); BOM_Manufacturer Part: PH-8P立贴; Contributor: LCSC; BOM_Supplier: LCSC; BOM_Supplier Part: C64660; BOM_JLCPCB Part Class: Extended Part; spicePre: C; spiceSymbolName: PH-8P立贴
footprint CONN-SMD_P2.00_PH-8P
pins: 1, 2, 3, 4, 5, 6, 7, 8, 9, 10

## PH-2AK
designator J?
2.00mm 线对板连接器
footprint CONN-TH_PH-2A
pins: 1, 2

## R-RJ45R08P-C000
designator RJ?
BOM_Manufacturer: Shenzhen Cankemeng; Contributor: LCSC; BOM_Supplier: LCSC; BOM_Supplier Part: C386757; BOM_Manufacturer Part: R-RJ45R08P-C000; BOM_JLCPCB Part Class: Extended Part; spicePre: R; spiceSymbolName: R-RJ45R08P-C000
footprint RJ45-TH_R-RJ45R08P-C000
pins: 1, 2, 3, 4, 5, 6, 7, 8, 9 L+, 10 L-, 11 R+, 12 R-, 13 S, 14 S

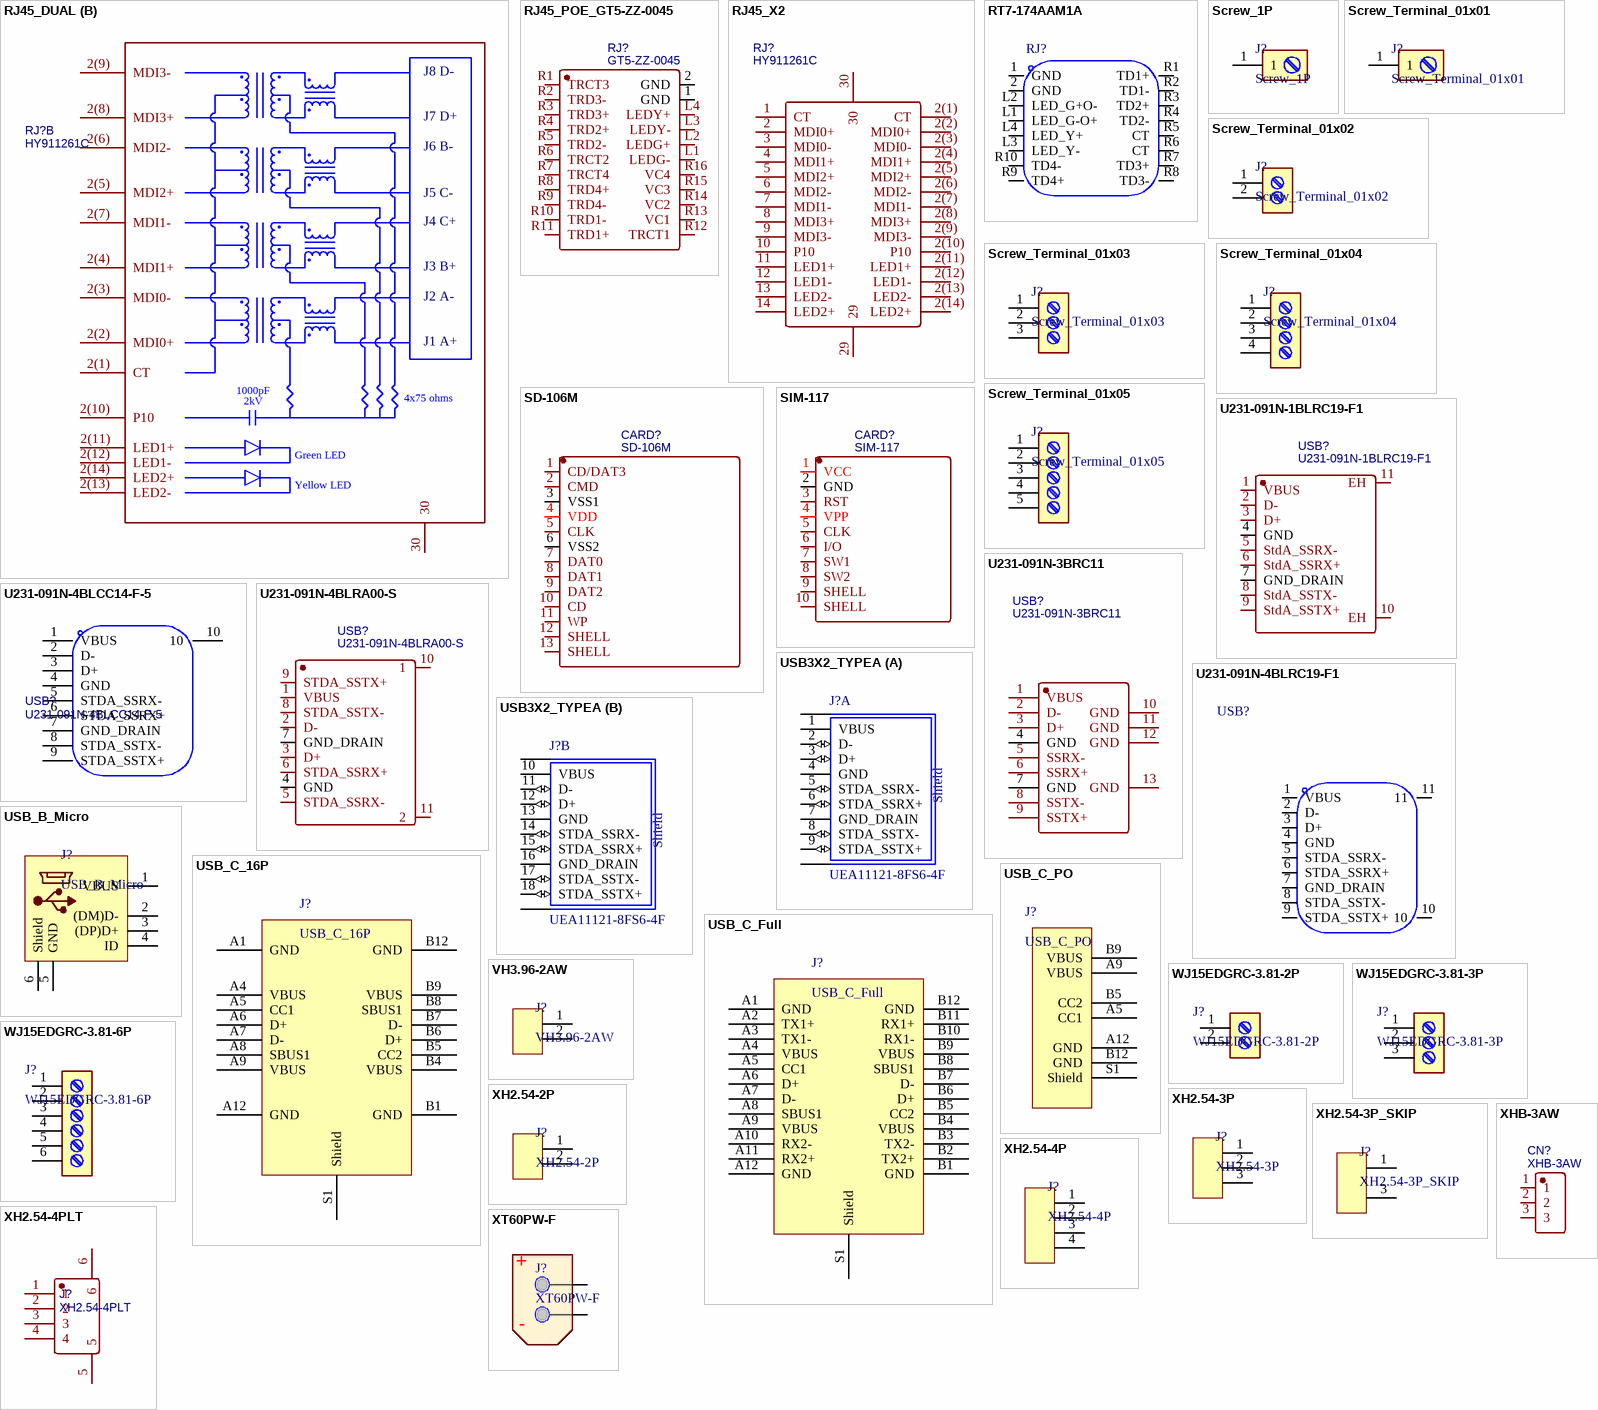
[diagram p4: symbols RJ45_DUAL to XT60PW-F]

## RJ45_DUAL
designator RJ?, comment HY911261C
BOM_Manufacturer: HANRUN; BOM_Supplier: LCSC; BOM_Manufacturer Part: HY911261C; BOM_Supplier Part: C55686; BOM_JLCPCB Part Class: Extended Part; spicePre: R; spiceSymbolName: HY911261C
footprint RJ45-TH_28P-P2.54-S2.54_L33.2-W21.4_HY911261C
part A pins: 1 CT, 2 MDI0+, 3 MDI0-, 4 MDI1+, 5 MDI2+, 6 MDI2-, 7 MDI1-, 8 MDI3+, 9 MDI3-, 10 P10, 11 LED1+, 12 LED1-, 13 LED2-, 14 LED2+, 29
part B pins: 2(1) CT, 2(2) MDI0+, 2(3) MDI0-, 2(4) MDI1+, 2(5) MDI2+, 2(6) MDI2-, 2(7) MDI1-, 2(8) MDI3+, 2(9) MDI3-, 2(10) P10, 2(11) LED1+, 2(12) LED1-, 2(13) LED2-, 2(14) LED2+, 30
part A text: J8 D-; J7 D+; J6 B-; J5 C-; J4 C+; J3 B+; J2 A-; J1 A+; 1000pF; 4x75 ohms; 2kV; Green LED; Yellow LED
part B text: J8 D-; J7 D+; J6 B-; J5 C-; J4 C+; J3 B+; J2 A-; J1 A+; 1000pF; 4x75 ohms; 2kV; Green LED; Yellow LED

## RJ45_POE_GT5-ZZ-0045
designator RJ?, comment GT5-ZZ-0045
10G 加POE60W 左黄右绿 开口向上; BOM_Manufacturer: UDE Corp; Contributor: LCSC; BOM_Supplier: LCSC; BOM_Supplier Part: C711509; BOM_Manufacturer Part: GT5-ZZ-0045; BOM_JLCPCB Part Class: Extended Part; spicePre: R; spiceSymbolName: GT5-ZZ-0045
footprint RJ45-TH_GT5-ZZ-0045
pins: 1 GND, 2 GND, L1 LEDG-, L2 LEDG+, L3 LEDY-, L4 LEDY+, R1 TRCT3, R2 TRD3-, R3 TRD3+, R4 TRD2+, R5 TRD2-, R6 TRCT2, R7 TRCT4, R8 TRD4+, R9 TRD4-, R10 TRD1-, R11 TRD1+, R12 TRCT1, R13 VC1, R14 VC2, R15 VC3, R16 VC4

## RJ45_X2
designator RJ?, comment HY911261C
BOM_Manufacturer: HANRUN; BOM_Supplier: LCSC; BOM_Manufacturer Part: HY911261C; BOM_Supplier Part: C55686; BOM_JLCPCB Part Class: Extended Part; spicePre: R; spiceSymbolName: HY911261C
footprint RJ45-TH_28P-P2.54-S2.54_L33.2-W21.4_HY911261C
pins: 1 CT, 2 MDI0+, 2(1) CT, 2(2) MDI0+, 2(3) MDI0-, 2(4) MDI1+, 2(5) MDI2+, 2(6) MDI2-, 2(7) MDI1-, 2(8) MDI3+, 2(9) MDI3-, 2(10) P10, 2(11) LED1+, 2(12) LED1-, 2(13) LED2-, 2(14) LED2+, 3 MDI0-, 4 MDI1+, 5 MDI2+, 6 MDI2-, 7 MDI1-, 8 MDI3+, 9 MDI3-, 10 P10, 11 LED1+, 12 LED1-, 13 LED2-, 14 LED2+, 29, 30

## RT7-174AAM1A
designator RJ?  (value not drawn)
RJ45 千兆带灯 左黄右绿橙 开口向上; Manufacturer: UDE(涌德电子); Add into BOM: yes; Connector Type: RJ插座; Number of Ports: 1; Mounting Sytle: 弯插; Shielding: 有; Symbol: RT7-174AAM1A; Device: RT7-174AAM1A; LCSC Part Name: 千兆带灯 左黄右绿橙 开口向上; Supplier Part: C711505; Manufacturer Part: RT7-174AAM1A; Supplier Footprint: 插件; JLCPCB Part Class: Extended Part; Datasheet: https://atta.szlcsc.com/upload/public/pdf/source/20200728/C711505_D0535B5F0E26438CCA7C395B6CC1A3F6.pdf; Supplier: LCSC; Convert to PCB: yes; USOC Codes: RJ45; Ratings: -; LED: 有; Operating Temperature Range: 0~+70
footprint RJ45-TH_RT7-174AAM1A
3D model RJ45-TH_RT7-174AAM1A
pins: 1 GND, 2 GND, L1 LED_G-O+, L2 LED_G+O-, L3 LED_Y-, L4 LED_Y+, R1 TD1+, R2 TD1-, R3 TD2+, R4 TD2-, R5 CT, R6 CT, R7 TD3+, R8 TD3-, R9 TD4+, R10 TD4-

## Screw_1P
designator J?
footprint CONN-TH_1P_Screw5x10mm
pins: 1

## Screw_Terminal_01x01
designator J?
Generic screw terminal, single row
pins: 1

## Screw_Terminal_01x02
designator J?
Generic screw terminal, single row
footprint MKDSN_1x02_P5.08mm
footprint MKDS5_1x02_P9.52mm
pins: 1, 2

## Screw_Terminal_01x03
designator J?
Generic screw terminal, single row
footprint MKDSN_1x03_P5.08mm
pins: 1, 2, 3

## Screw_Terminal_01x04
designator J?
Generic screw terminal, single row
footprint MKDSN_1x04_P5.08mm
pins: 1, 2, 3, 4

## Screw_Terminal_01x05
designator J?
Generic screw terminal, single row
pins: 1, 2, 3, 4, 5

## SD-106M
designator CARD?
BOM_Manufacturer: XUNPU; Contributor: LCSC; BOM_Supplier: LCSC; BOM_Supplier Part: C266603; BOM_Manufacturer Part: SD-106M; BOM_JLCPCB Part Class: Extended Part; spicePre: C; spiceSymbolName: SD-106M
footprint SD-SMD_SD-106M
pins: 1 CD/DAT3, 2 CMD, 3 VSS1, 4 VDD, 5 CLK, 6 VSS2, 7 DAT0, 8 DAT1, 9 DAT2, 10 CD, 11 WP, 12 SHELL, 13 SHELL

## SIM-117
designator CARD?
BOM_Manufacturer: XUNPU; Contributor: LCSC; BOM_Supplier: LCSC; BOM_Supplier Part: C266630; BOM_Manufacturer Part: SIM-117; BOM_JLCPCB Part Class: Extended Part; spicePre: C; spiceSymbolName: SIM-117
footprint SIM-SMD_SIM-117
pins: 1 VCC, 2 GND, 3 RST, 4 VPP, 5 CLK, 6 I/O, 7 SW1, 8 SW2, 9 SHELL, 10 SHELL

## U231-091N-1BLRC19-F1
designator USB?
BOM_Manufacturer: XKB Connectivity(中国星坤); Contributor: LCSC; BOM_Supplier: LCSC; BOM_Supplier Part: C2880601; BOM_Manufacturer Part: U231-091N-1BLRC19-F1; BOM_JLCPCB Part Class: Extended Part; spicePre: U; spiceSymbolName: U231-091N-1BLRC19-F1
footprint USB-3.0-TH_XKB_U231-091N-1BLRC19-F1
pins: 1 VBUS, 2 D-, 3 D+, 4 GND, 5 StdA_SSRX-, 6 StdA_SSRX+, 7 GND_DRAIN, 8 StdA_SSTX-, 9 StdA_SSTX+, 10 EH, 11 EH

## U231-091N-3BRC11
designator USB?
BOM_Manufacturer: XKB Connectivity; BOM_Manufacturer Part: U231-091N-3BRC10-5; Contributor: LCSC; BOM_Supplier: LCSC; BOM_Supplier Part: C692545; spicePre: U; spiceSymbolName: U231-091N-3BRC10-5
footprint USB-C-TH_U231-091N-3BRC11
pins: 1 VBUS, 2 D-, 3 D+, 4 GND, 5 SSRX-, 6 SSRX+, 7 GND, 8 SSTX-, 9 SSTX+, 10 GND, 11 GND, 12 GND, 13 GND

## U231-091N-4BLCC14-F-5
designator USB?
USB3.0 侧插; BOM_Manufacturer: HOOYA(香港皓宇); BOM_Manufacturer Part: USB-303L-L-SU; Contributor: lcsc; BOM_Supplier: LCSC; BOM_Supplier Part: C2939532; link: https://atta.szlcsc.com/upload/public/pdf/source/20220401/4DFECE0CFC6CE01AD941A9A056F4BDE4.pdf; spicePre: U; spiceSymbolName: USB-303L-L-SU
footprint USB3.0-A-TH_U231-091N-4BLCC14-S-5
pins: 1 VBUS, 2 D-, 3 D+, 4 GND, 5 STDA_SSRX-, 6 STDA_SSRX+, 7 GND_DRAIN, 8 STDA_SSTX-, 9 STDA_SSTX+, 10

## U231-091N-4BLRA00-S
designator USB?
BOM_Manufacturer: XKB Connectivity(中国星坤); Contributor: LCSC; BOM_Supplier: LCSC; BOM_Supplier Part: C2880618; BOM_Manufacturer Part: U231-091N-4BLRA00-S; BOM_JLCPCB Part Class: Extended Part; spicePre: U; spiceSymbolName: U231-091N-4BLRA00-S
footprint USB-SMD_U231-091N-4BLRA00-S
pins: 1 VBUS, 2 D-, 3 D+, 4 GND, 5 STDA_SSRX-, 6 STDA_SSRX+, 7 GND_DRAIN, 8 STDA_SSTX-, 9 STDA_SSTX+, 10 1, 11 2

## U231-091N-4BLRC19-F1
designator USB?
Manufacturer: XKB Connectivity(中国星坤); Symbol: U231-091N-4BLRC19-F1; Add into BOM: yes; Connector Type: Type-A; Gender: 母座; Number of Contacts: 9; Number of Ports: 1; Current Rating - Power (Max): 1A; Device: U231-091N-4BLRC19-F1; LCSC Part Name: Type-A 母座; Supplier Part: C397360; Manufacturer Part: U231-091N-4BLRC19-F1; Supplier Footprint: 插件; JLCPCB Part Class: Extended Part; Datasheet: https://atta.szlcsc.com/upload/public/pdf/source/20190612/C397360_7F8AEDED25EA9FAD48446CE4CD877242.pdf; Supplier: LCSC; Convert to PCB: yes; Standard: USB 3.0
footprint USB-A-TH_U231-091N-4BLRC19-F1
3D model USB-A-TH_U231-091N-4BLRC19-F1
pins: 1 VBUS, 2 D-, 3 D+, 4 GND, 5 STDA_SSRX-, 6 STDA_SSRX+, 7 GND_DRAIN, 8 STDA_SSTX-, 9 STDA_SSTX+, 10, 11

## USB3X2_TYPEA
designator J?, comment UEA11121-8FS6-4F
footprint USB3x2_UEA11121-8FS6-4F
part A pins: 1 VBUS, 2 D- (io), 3 D+ (io), 4 GND, 5 STDA_SSRX- (io), 6 STDA_SSRX+ (io), 7 GND_DRAIN, 8 STDA_SSTX- (io), 9 STDA_SSTX+ (io), S3 SHIELD, S4 SHIELD
part B pins: 10 VBUS, 11 D- (io), 12 D+ (io), 13 GND, 14 STDA_SSRX- (io), 15 STDA_SSRX+ (io), 16 GND_DRAIN, 17 STDA_SSTX- (io), 18 STDA_SSTX+ (io), S1 SHIELD, S2 SHIELD
part A text: Shield
part B text: Shield

## USB_B_Micro
designator J?
USB Micro Type B connector
footprint USB_Micro-B_SMT_With_Column
footprint USB_Micro-B_Vertical_SHOUHAN_180ZB
footprint MICRO-USB-SMD_MICROXNJ
pins: 1 VBUS, 2 (DM)D-, 3 (DP)D+, 4 ID, 5 GND, 6 Shield

## USB_C_16P
designator J?
USB_C_16P USB 2.0
footprint USB_C_Receptacle_XUNPU_TYPEC-304-BCP16
footprint USB_C_XUNPU_TYPEC-303-ACP16
pins: A1 GND, A4 VBUS, A5 CC1, A6 D+, A7 D-, A8 SBUS1, A9 VBUS, A12 GND, B1 GND, B4 VBUS, B5 CC2, B6 D+, B7 D-, B8 SBUS1, B9 VBUS, B12 GND, S1 Shield

## USB_C_Full
designator J?
USB_C_Full 24Pin
pins: A1 GND, A2 TX1+, A3 TX1-, A4 VBUS, A5 CC1, A6 D+, A7 D-, A8 SBUS1, A9 VBUS, A10 RX2-, A11 RX2+, A12 GND, B1 GND, B2 TX2+, B3 TX2-, B4 VBUS, B5 CC2, B6 D+, B7 D-, B8 SBUS1, B9 VBUS, B10 RX1-, B11 RX1+, B12 GND, S1 Shield

## USB_C_PO
designator J?
USB_C_PO  Power Only
footprint USB_C_PowerOnly_XKB_U262-061N-4BVC10
footprint USB_C_PO_XUNPU_TYPEC-253-BCP6
footprint USB_C_PO_SHOUHAN_DT6P-DIP
pins: A5 CC1, A9 VBUS, A12 GND, B5 CC2, B9 VBUS, B12 GND, S1 Shield

## VH3.96-2AW
designator J?
footprint VH3.96-2AW
pins: 1, 2

## WJ15EDGRC-3.81-2P
designator J?
3.81mm 排数:1 每排P数: 弯针
footprint CONN-TH_WJ15EDGRC-3.81-2P
pins: 1, 2

## WJ15EDGRC-3.81-3P
designator J?
3.81mm 排数:1 每排P数:3 弯针
footprint CONN-TH_WJ15EDGRC-3.81-3P
pins: 1, 2, 3

## WJ15EDGRC-3.81-6P
designator J?
3.81mm 排数:1 每排P数:6 弯针
footprint CONN-TH_WJ15EDGRC-3.81-6P
pins: 1, 2, 3, 4, 5, 6

## XH2.54-2P
designator J?
母座 直插/直针 2.5mm 2Pin位 俗称： XH2.54带扣 HA2.54
footprint CONN-TH_2P-P2.50_HX25003-2A
pins: 1, 2

## XH2.54-3P
designator J?
母座 直插/直针 2.5mm 3Pin位 俗称： XH2.54带扣 HA2.54
footprint CONN-TH_3P-P2.50
pins: 1, 2, 3

## XH2.54-3P_SKIP
designator J?
母座 直插/直针 2.5mm 3Pin位 2pin去除
footprint CONN-TH_3P-P2.50_SKIP
footprint CONN-TH_3P-P2.50 _SKIP_H
pins: 1, 3

## XH2.54-4P
designator J?
母座 直插/直针 2.5mm 2Pin位 俗称： XH2.54带扣 HA2.54
footprint CONN-TH_4P-P2.50
pins: 1, 2, 3, 4

## XH2.54-4PLT
designator J?
2.54间距 4P立贴; BOM_Manufacturer: SHOU HAN(首韩); Contributor: lcsc; BOM_Supplier: LCSC; BOM_Supplier Part: C3008580; BOM_Manufacturer Part: 2.54-4PLT; link: https://atta.szlcsc.com/upload/public/pdf/source/20220427/B27E823FA990A8FF87420A79D8BE2F8E.pdf; BOM_JLCPCB Part Class: Extended Part; spicePre: U; spiceSymbolName: 2.54-4PLT
footprint CONN-SMD_4P-P2.50_SHOU_2.54-4PLT
pins: 1, 2, 3, 4, 5, 6

## XHB-3AW
designator CN?
BOM_Manufacturer: CAX; Contributor: LCSC; BOM_Supplier: LCSC; BOM_Supplier Part: C722900; BOM_Manufacturer Part: XHB-3AW; BOM_JLCPCB Part Class: Extended Part; spicePre: C; spiceSymbolName: XHB-3AW_C722900
footprint CONN-TH_XHB-3AW
pins: 1, 2, 3

## XT60PW-F
designator J?
pins: 1 VCC, 2 GND
text: +; -